# Altium schematic symbol library Schlib1.SchLib: 7 symbols
Pins are listed as number, name and electrical type; pins without a type are passive.

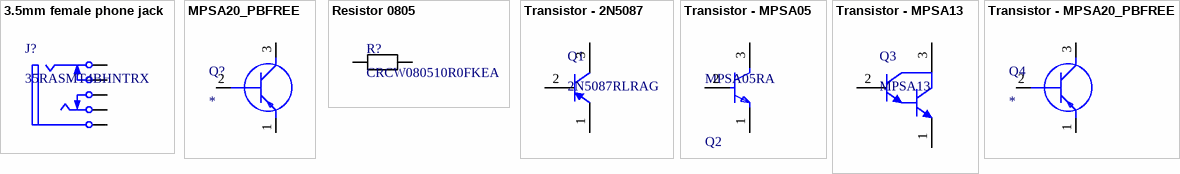
[diagram p0: symbols 3.5mm female phone jack to Transistor - MPSA20_PBFREE]

## 3.5mm female phone jack
designator J?, comment 35RASMT4BHNTRX
Female 3.5 mm Phone Jack, 5 Position, Height 5 mm, RoHS, Tape and Reel; Current Rating: 50 mA; Voltage Rating (DC): 12 V; ComponentLink1URL: http://www.switchcraft.com/; ComponentLink2Description: Datasheet; ComponentLink2URL: http://www.switchcraft.com/Drawings/35rasmt4bhntrx_cd.pdf; PackageDescription: Female 3.5 mm Phone Jack, 5 Position, Height 5 mm; PackageReference: 35RASMT4BHNTRX; Mount: Through Hole; DatasheetVersion: Rev. C, 07/2014; Contact Material: Silver; ComponentLink1Description: Manufacturer URL; Packaging: Tape and Reel; RoHSCompliant: true; Contact Plating: Silver; Package Quantity: 3000
footprint SWIT-35RASMT4BHNTRX_V (Jack, 5-Leads, Body 17x6mm)
pins: 1, 2, 3, 4, 5

## MPSA20_PBFREE
designator Q?
Transistor BJT PNP; Manufacturer_Name: Central Semiconductor; Manufacturer_Part_Number: MPSA20 PBFREE; Description: Bipolar Transistors - BJT NPN Gen Pur SS; Datasheet Link: https://my.centralsemi.com/datasheets/MPSA20_MPSA70.PDF; Height: 5.33mm
footprint MPSA20PBFREE
pins: 1 E, 2 B, 3 C

## Resistor 0805
designator R?, comment CRCW080510R0FKEA
Manufacturer: Vishay Dale; Part Number: CRCW080510R0FKEA
footprint RESC2013X50X30ML20T20 (Chip Resistor, 2-Leads, Body 2.00x1.25mm, IPC Low Density)
footprint RESC2013X50X30NL20T20 (Chip Resistor, 2-Leads, Body 2.00x1.25mm, IPC Medium Density)
footprint RESC2013X50X30LL20T20 (Chip Resistor, 2-Leads, Body 2.00x1.25mm, IPC High Density)
pins: 1, 2
1 alternate drawing of the same symbol

## Transistor - 2N5087
designator Q1, comment 2N5087RLRAG
Amplifier Transistor, PNP Silicon, 3-Pin TO-92, Pb-Free, Tape and Reel; Manufacturer: On Semiconductor; fT Min (MHz): 40; IC Continuous (A): 0.05; ComponentLink1Description: Manufacturer URL; Packing: Tape and Reel; PackageDescription: 3-Pin Transistor Outline, Body 4.825 x 3.685 mm, Pitch 1.27 mm; ComponentLink3URL: http://www.onsemi.com/pub_link/Collateral/MAC97-D.PDF; RoHS: TRUE; ComponentLink2URL: http://www.onsemi.com/pub_link/Collateral/2N5087-D.PDF; PackageVersion: Rev. AM; Mounting Technology: Through Hole; Polarity: PNP; PartNumber: 2N5087RLRAG; DatasheetVersion: Rev. 5; ComponentLink1URL: http://www.onsemi.com/; ComponentLink2Description: Datasheet; ComponentLink3Description: Package Specification; PackageReference: TO-92-3-29-11_AM_BL
footprint ONSC-TO-92-3-29-11_AM_BL (TO, 3-Leads, Body Dia 4.7mm, Pitch 2.6mm)
pins: 1 E, 2 B, 3 C

## Transistor - MPSA05
designator Q2, comment MPSA05RA
MPSA05RA Bipolar Transistors - BJT NPN Transistor Medium Power; NexarPartId: 14390798; Manufacturer Lifecycle Status: ACTIVE; Max Power Dissipation: 625mW; Collector Emitter Voltage (VCEO): 60V; Gain Bandwidth Product: 100MHz; Collector Emitter Saturation Voltage: 250mV; Emitter Base Voltage (VEBO): 4V; Current Rating: 500mA; Number of Elements: 1; Max Junction Temperature (Tj): 150°C; hFE Min: 100; Element Configuration: Single; Collector Base Voltage (VCBO): 60V; Schedule B: 8541210080, 8541210080|8541210080, 8541210080|8541210080|8541210080, 8541210080|8541210080|8541210080|8541210080; RoHS: Compliant; Mount: Through Hole; Weight: 201mg; Min Operating Temperature: -55°C; Max Frequency: 100MHz; Height: 8.77mm; Lifecycle Status: Production; Polarity: NPN; Frequency: 100MHz; Contact Plating: Copper, Silver, Tin; Length: 4.58mm; Number of Pins: 3; Width: 3.86mm; Power Dissipation: 625mW; Voltage Rating (DC): 60V; REACH SVHC: No SVHC; Case/Package: TO-92-3; Max Collector Current: 500mA; Collector Emitter Breakdown Voltage: 60V; Lead Free: Lead Free; Max Operating Temperature: 150°C; Radiation Hardening: No; Transition Frequency: 100MHz; Max Breakdown Voltage: 60V
footprint FP-135AR-MFG
pins: 1 E, 2 B, 3 C

## Transistor - MPSA13
designator Q3, comment MPSA13
Darlington Transistor, NPN Silicon, 3-Pin TO-92, Bulk Box; Manufacturer: On Semiconductor; Note1: 0; IC Continuous (A): 0.5; DatasheetVersion: Rev. 4; ComponentLink1Description: Manufacturer URL; Packing: Bulk Box; PartNumber: MPSA13; ComponentLink1URL: http://www.onsemi.com/; Mounting Technology: Through Hole; Polarity: NPN; PackageReference: TO-92-3-29-11_AM_SL; ComponentLink2Description: Datasheet; ComponentLink2URL: http://www.onsemi.cn/pub_link/Collateral/MPSA13-D.PDF; ComponentLink3Description: Package Specification; RoHS: FALSE; PackageVersion: Rev. AM; ComponentLink3URL: http://www.onsemi.cn/pub_link/Collateral/2N6426-D.PDF; PackageDescription: 3-Pin Transistor Outline, Body 4.825 x 3.685 mm, Pitch 1.27 mm
footprint ONSC-TO-92-3-29-11 (TO, 3-Leads, Body Dia 4.7mm, Pitch 1.27mm)
pins: 1 E, 2 B, 3 C

## Transistor - MPSA20_PBFREE
designator Q4
Transistor BJT PNP; Manufacturer_Name: Central Semiconductor; Manufacturer_Part_Number: MPSA20 PBFREE; Description: Bipolar Transistors - BJT NPN Gen Pur SS; Datasheet Link: https://my.centralsemi.com/datasheets/MPSA20_MPSA70.PDF; Height: 5.33mm
footprint MPSA20PBFREE
pins: 1 E, 2 B, 3 C